# EAGLE library part RGB_SMD_5050 (library VLMRGB6112)
RGB LED 5050 SMD China
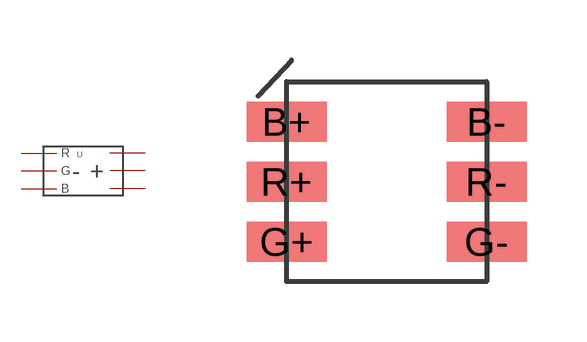
[diagram p1: symbol with the pads of PLCC-6_5050; footprint PLCC-6_5050]

Designator prefix -

## RGB_SMD_5050  [PLCC-6_5050]
B+  B+
B-  B-
G+  G+
G-  G-
R+  R+
R-  R-

## Footprint PLCC-6_5050 (pad centres in mm)
smd 2 x 1: B+ -2.5,1.5; B- 2.5,1.5; G+ -2.5,-1.5; G- 2.5,-1.5; R+ -2.5,0; R- 2.5,0